# Altium footprint library footprints.PCBLIB: 194 footprints (part 7 of 13)
Each footprint in its own frame and in the unit in brackets; x right, y up, seen from the top. Pads: shape width x height; smd on the part's side, far side on the other; paste and mask are expansions set on the pad; w line width, h text height; cw(c..) or ccw(c..) is an arc to the next point about the centre after c.
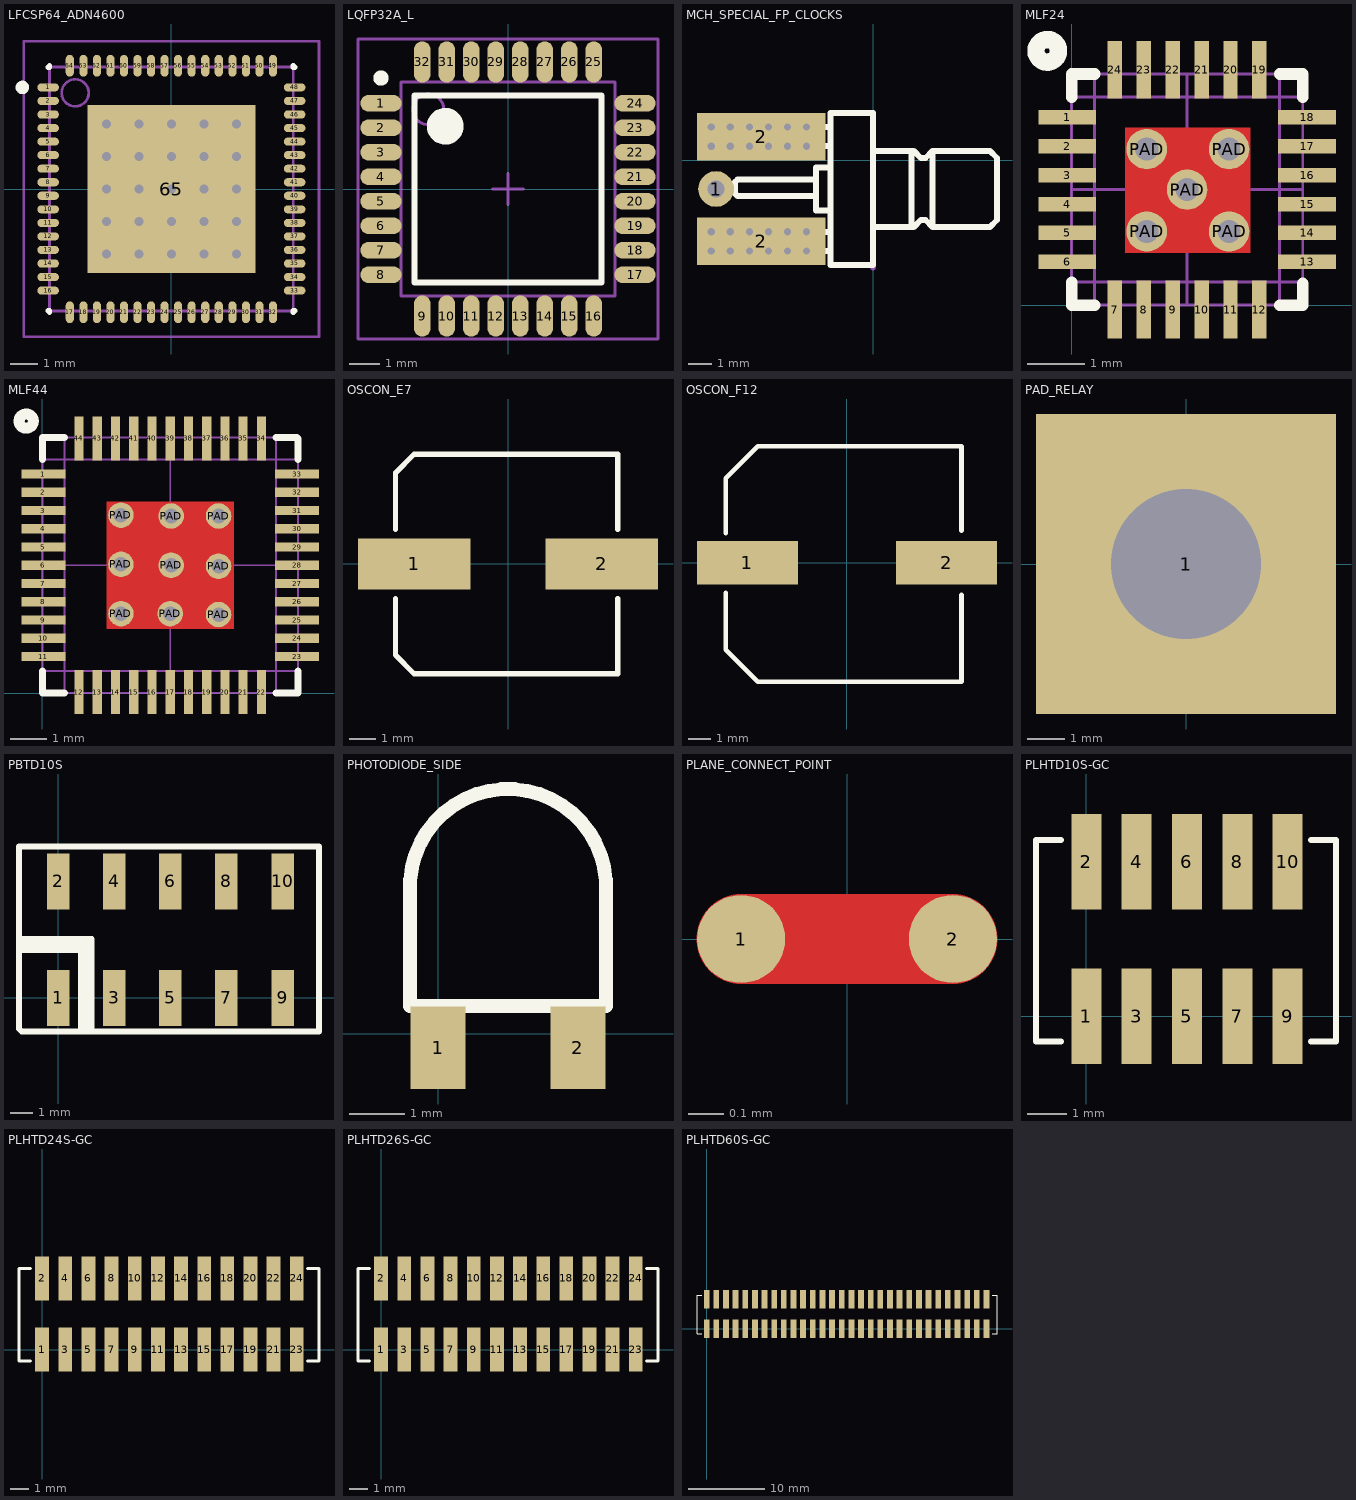
[diagram p6: the footprints below, top view; thin cyan lines are the x and y axes]

## LFCSP64_ADN4600 [mm] "LFCSP64_ADN4600"
height 0.8
pads (65):
  oval 0.8x0.3 smd: 1(-4.55,3.75) 2(-4.55,3.25) 3(-4.55,2.75) 4(-4.55,2.25) 5(-4.55,1.75) 6(-4.55,1.25) 7(-4.55,0.75) 8(-4.55,0.25) 9(-4.55,-0.25) 10(-4.55,-0.75) 11(-4.55,-1.25) 12(-4.55,-1.75) 13(-4.55,-2.25) 14(-4.55,-2.75) 15(-4.55,-3.25) 16(-4.55,-3.75) 33(4.55,-3.75) 34(4.55,-3.25) 35(4.55,-2.75) 36(4.55,-2.25) 37(4.55,-1.75) 38(4.55,-1.25) 39(4.55,-0.75) 40(4.55,-0.25) 41(4.55,0.25) 42(4.55,0.75) 43(4.55,1.25) 44(4.55,1.75) 45(4.55,2.25) 46(4.55,2.75) 47(4.55,3.25) 48(4.55,3.75)
  oval 0.3x0.8 smd: 17(-3.75,-4.55) 18(-3.25,-4.55) 19(-2.75,-4.55) 20(-2.25,-4.55) 21(-1.75,-4.55) 22(-1.25,-4.55) 23(-0.75,-4.55) 24(-0.25,-4.55) 25(0.25,-4.55) 26(0.75,-4.55) 27(1.25,-4.55) 28(1.75,-4.55) 29(2.25,-4.55) 30(2.75,-4.55) 31(3.25,-4.55) 32(3.75,-4.55) 49(3.75,4.55) 50(3.25,4.55) 51(2.75,4.55) 52(2.25,4.55) 53(1.75,4.55) 54(1.25,4.55) 55(0.75,4.55) 56(0.25,4.55) 57(-0.25,4.55) 58(-0.75,4.55) 59(-1.25,4.55) 60(-1.75,4.55) 61(-2.25,4.55) 62(-2.75,4.55) 63(-3.25,4.55) 64(-3.75,4.55)
  rect 6.2x6.2 smd paste-200: 65(0,0)
via -2.4,2.4 diameter 0.66 hole 0.33
via -1.2,2.4 diameter 0.66 hole 0.33
via 0,2.4 diameter 0.66 hole 0.33
via 1.2,2.4 diameter 0.66 hole 0.33
via 2.4,2.4 diameter 0.66 hole 0.33
via -2.4,1.2 diameter 0.66 hole 0.33
via -1.2,1.2 diameter 0.66 hole 0.33
via 0,1.2 diameter 0.66 hole 0.33
via 1.2,1.2 diameter 0.66 hole 0.33
via 2.4,1.2 diameter 0.66 hole 0.33
via -2.4,0 diameter 0.66 hole 0.33
via -1.2,0 diameter 0.66 hole 0.33
via 0,0 diameter 0.66 hole 0.33
via 1.2,0 diameter 0.66 hole 0.33
via 2.4,0 diameter 0.66 hole 0.33
via -2.4,-1.2 diameter 0.66 hole 0.33
via -1.2,-1.2 diameter 0.66 hole 0.33
via 0,-1.2 diameter 0.66 hole 0.33
via 1.2,-1.2 diameter 0.66 hole 0.33
via 2.4,-1.2 diameter 0.66 hole 0.33
via -2.4,-2.4 diameter 0.66 hole 0.33
via -1.2,-2.4 diameter 0.66 hole 0.33
via 0,-2.4 diameter 0.66 hole 0.33
via 1.2,-2.4 diameter 0.66 hole 0.33
via 2.4,-2.4 diameter 0.66 hole 0.33
Top Overlay:
  circle w0.25: c-5.5,3.75 r0.125
  lines w0.2: -4.55,-4.5 -4.5,-4.5 -4.5,-4.55 ; -4.55,4.5 -4.5,4.5 -4.5,4.55 ; 4.5,-4.55 4.5,-4.5 4.55,-4.5 ; 4.5,4.55 4.5,4.5 4.55,4.5
Top Paste:
  rectangle: -3.05,-3.05 -0.25,-0.25
  rectangle: 0.25,-3.05 3.05,-0.25
  rectangle: 0.25,0.25 3.05,3.05
  rectangle: -3.05,0.25 -0.25,3.05
Mechanical 13:
  circle w0.1: c-3.55,3.55 r0.5
  lines w0.1: -4.5,-4.5 -4.5,4.5 4.5,4.5 4.5,-4.5 -4.5,-4.5
Mechanical 15:
  lines w0.1: -0.5,0 0.5,0 ; 0,-0.5 0,0.5 ; -5.45,-5.45 -5.45,5.45 5.45,5.45 5.45,-5.45 -5.45,-5.45
3D body: height 0.8, standoff 0.01, extent -4.5,-4.5 4.5,4.5

## LQFP32A_L [mm] "Thin QFP, 32-Leads, Body 7x7mm, Pitch 0.8mm, IPC High Density"
height 1.2
pads (32):
  oval 1.35x0.55 smd: 1(-4.15,2.8) 2(-4.15,2) 3(-4.15,1.2) 4(-4.15,0.4) 5(-4.15,-0.4) 6(-4.15,-1.2) 7(-4.15,-2) 8(-4.15,-2.8) 17(4.15,-2.8) 18(4.15,-2) 19(4.15,-1.2) 20(4.15,-0.4) 21(4.15,0.4) 22(4.15,1.2) 23(4.15,2) 24(4.15,2.8)
  oval 0.55x1.35 smd: 9(-2.8,-4.15) 10(-2,-4.15) 11(-1.2,-4.15) 12(-0.4,-4.15) 13(0.4,-4.15) 14(1.2,-4.15) 15(2,-4.15) 16(2.8,-4.15) 25(2.8,4.15) 26(2,4.15) 27(1.2,4.15) 28(0.4,4.15) 29(-0.4,4.15) 30(-1.2,4.15) 31(-2,4.15) 32(-2.8,4.15)
Top Overlay:
  circle w0.6: c-2.05,2.05 r0.3
  circle w0.25: c-4.15,3.625 r0.125
  lines w0.2: -3.05,-3.05 3.05,-3.05 3.05,3.05 -3.05,3.05 -3.05,-3.05
Mechanical 13:
  circle w0.1: c-2.6,2.6 r0.5
  lines w0.1: -3.5,-3.5 3.5,-3.5 3.5,3.5 -3.5,3.5 -3.5,-3.5
Mechanical 15:
  lines w0.1: -0.5,0 0.5,0 ; 0,-0.5 0,0.5 ; -4.9,-4.9 4.9,-4.9 4.9,4.9 -4.9,4.9 -4.9,-4.9
3D body: height 1.2, standoff 0, extent -3.5,-3.5 3.5,3.5

## MCH_SPECIAL_FP_CLOCKS [mm]
pads (3):
  round 1.5 hole 0.7 paste-1000: 1(-6.6,-1.2)
  rect 5.4x2 smd paste-1000: 2(-4.7,-3.4) 2(-4.7,1)
via -6.8,-3 diameter 0.61 hole 0.305
via -6,-3 diameter 0.61 hole 0.305
via -5.2,-3 diameter 0.61 hole 0.305
via -4.4,-3 diameter 0.61 hole 0.305
via -3.6,-3 diameter 0.61 hole 0.305
via -2.8,-3 diameter 0.61 hole 0.305
via -2.8,-3.8 diameter 0.61 hole 0.305
via -3.6,-3.8 diameter 0.61 hole 0.305
via -4.4,-3.8 diameter 0.61 hole 0.305
via -5.2,-3.8 diameter 0.61 hole 0.305
via -6,-3.8 diameter 0.61 hole 0.305
via -6.8,-3.8 diameter 0.61 hole 0.305
via -6.8,0.6 diameter 0.61 hole 0.305
via -6,0.6 diameter 0.61 hole 0.305
via -5.2,0.6 diameter 0.61 hole 0.305
via -4.4,0.6 diameter 0.61 hole 0.305
via -3.6,0.6 diameter 0.61 hole 0.305
via -2.8,0.6 diameter 0.61 hole 0.305
via -2.8,1.4 diameter 0.61 hole 0.305
via -3.6,1.4 diameter 0.61 hole 0.305
via -4.4,1.4 diameter 0.61 hole 0.305
via -5.2,1.4 diameter 0.61 hole 0.305
via -6,1.4 diameter 0.61 hole 0.305
via -6.8,1.4 diameter 0.61 hole 0.305
Top Overlay:
  lines w0.25: -2.5,-1.5 -5.7,-1.5 -5.8,-1.4 -5.8,-0.9 ; -2.5,-0.8 -5.7,-0.8 -5.8,-0.9 ; -1.9,-3.8 -6.8,-3.8 -6.8,-3 -1.8,-3 ; -1.9,-2.1 -2.4,-2.1 -2.4,-0.3 -1.8,-0.3 ; -1.9,0.6 -6.7,0.6 -6.8,0.6 ; -1.8,1.4 -6.8,1.4 ; 0,-2.8 1.7,-2.8 2,-2.5 2.2,-2.5 2.5,-2.8 4.9,-2.8 5.2,-2.5 5.2,-1.1 ; 0,0.4 1.7,0.4 2,0.1 2.2,0.1 2.5,0.4 ; 1.6,-2.8 1.6,0.4 ; 2.5,-2.7 2.5,0.4 ; 5.2,-1.3 5.2,0.1 4.9,0.4 2.5,0.4 ; -6.8,0.6 -6.8,1.4 ; -6.8,0.6 -6.8,1.4 ; -6.8,0.6 -6.8,1.4 ; -5.8,-0.9 -5.8,-0.9 ; -1.8,-4.4 -1.8,2 0,2 0,-4.4 -1.8,-4.4
Mechanical 13:
  lines w0.25: 0,-4.5 0,2

## MLF24 [mm]
pads (29):
  rect 1x0.25 smd: 1(-0.075,3.25) 2(-0.075,2.75) 3(-0.075,2.25) 4(-0.075,1.75) 5(-0.075,1.25) 6(-0.075,0.75) 13(4.075,0.75) 14(4.075,1.25) 15(4.075,1.75) 16(4.075,2.25) 17(4.075,2.75) 18(4.075,3.25)
  rect 0.25x1 smd: 7(0.75,-0.075) 8(1.25,-0.075) 9(1.75,-0.075) 10(2.25,-0.075) 11(2.75,-0.075) 12(3.25,-0.075) 19(3.25,4.075) 20(2.75,4.075) 21(2.25,4.075) 22(1.75,4.075) 23(1.25,4.075) 24(0.75,4.075)
  round 0.7 hole 0.4: PAD(1.3,1.275) PAD(1.3,2.7) PAD(2,2) PAD(2.725,1.275) PAD(2.725,2.7)
Top Layer:
  rectangle: 0.925,0.9 3.1,3.075
Top Overlay:
  circle w0.3: c-0.42,4.4 r0.195
  lines w0.2: 0,0.4 0,0 0.4,0 ; 0,3.6 0,4 0.4,4 ; 3.6,0 4,0 4,0.375 ; 3.6,4 4,4 4,3.6
Top Solder:
  rectangle: 0.825,0.8 3.2,3.175
Mechanical 15:
  lines w0.05: 0,0.4 3.975,0.4 ; 0,2 4,2 ; 0,3.6 4,3.6 ; 0.4,0 0.4,4 ; 2,0 2,4 ; 3.6,0 3.6,4 ; 0,0 0,4 4,4 4,0 0,0

## MLF44 [mm]
pads (53):
  rect 1.2x0.25 smd: 1(0.025,6) 2(0.025,5.5) 3(0.025,5) 4(0.025,4.5) 5(0.025,4) 6(0.025,3.5) 7(0.025,3) 8(0.025,2.5) 9(0.025,2) 10(0.025,1.5) 11(0.025,1) 23(6.975,1) 24(6.975,1.5) 25(6.975,2) 26(6.975,2.5) 27(6.975,3) 28(6.975,3.5) 29(6.975,4) 30(6.975,4.5) 31(6.975,5) 32(6.975,5.5) 33(6.975,6)
  rect 0.25x1.2 smd: 12(1,0.025) 13(1.5,0.025) 14(2,0.025) 15(2.5,0.025) 16(3,0.025) 17(3.5,0.025) 18(4,0.025) 19(4.5,0.025) 20(5,0.025) 21(5.5,0.025) 22(6,0.025) 34(6,6.975) 35(5.5,6.975) 36(5,6.975) 37(4.5,6.975) 38(4,6.975) 39(3.5,6.975) 40(3,6.975) 41(2.5,6.975) 42(2,6.975) 43(1.5,6.975) 44(1,6.975)
  round 0.7 hole 0.4: PAD(2.15,2.175) PAD(2.15,3.525) PAD(2.15,4.875) PAD(3.5,2.175) PAD(3.525,3.5) PAD(3.525,4.85) PAD(4.825,2.15) PAD(4.825,3.475) PAD(4.825,4.85)
Top Layer:
  rectangle: 1.75,1.75 5.25,5.25
Top Overlay:
  circle w0.3: c-0.445,7.45 r0.195
  lines w0.2: 0,0 0,0.6 ; 0,6.4 0,7 0.6,7 ; 0.025,0 0.6,0 ; 6.4,0 7,0 7,0.6 ; 6.4,7 6.975,7 7,6.975 7,6.4
Top Solder:
  rectangle: 1.675,1.675 5.325,5.325
Mechanical 15:
  lines w0.05: 0,0.6 7,0.6 ; 0,3.5 7,3.5 ; 0,6.4 7,6.4 ; 0.6,0 0.6,7 ; 3.5,0 3.5,7 ; 6.4,0 6.4,7 ; 0,0 7,0 7,7 0,7 0,0

## MLF64 [mm]

## OSCON_E7 [mm]
pads (2):
  rect 4.2x1.9 smd: 1(-3.5,0) 2(3.5,0)
Top Overlay:
  lines w0.2: -4.2,-1.3 -4.2,-3.4 -3.5,-4.1 4.1,-4.1 4.1,-1.3 ; -4.2,1.3 -4.2,3.4 -3.5,4.1 4.1,4.1 4.1,1.3

## OSCON_F12 [mm]
pads (2):
  rect 4.4x1.9 smd: 1(-4.35,0) 2(4.35,0)
Top Overlay:
  lines w0.2: -5.3,-1.3 -5.3,-3.8 -3.9,-5.2 5,-5.2 5,-1.4 ; -5.3,1.3 -5.3,3.7 -3.9,5.1 5,5.1 5,1.4

## PAD_RELAY [mm]
pads (1):
  rect 8x8 hole 4: 1(0,0)

## PBTD10S [mm] "SMT 2.54 female header  (Maritex)"
height 7.1
pads (10):
  rect 1.02x2.54 smd: 1(0,0) 2(0,5.28) 3(2.54,0) 4(2.54,5.28) 5(5.08,0) 6(5.08,5.28) 7(7.62,0) 8(7.62,5.28) 9(10.16,0) 10(10.16,5.28)
Top Overlay:
  lines w0.254: -1.778,2.159 1.016,2.159 1.016,-1.524 ; -1.778,2.413 1.27,2.413 1.27,1.778 1.27,-1.524 ; -1.778,2.667 1.524,2.667 1.524,-1.524 ; -0.762,6.858 -0.127,6.858 ; 0.127,6.858 -1.778,6.858 ; 0.889,2.413 1.016,2.413 1.27,2.159 ; 1.016,2.667 1.27,2.667 1.524,2.413 ; -1.778,6.858 -1.778,-1.397 -1.651,-1.524 1.016,-1.524 ; -1.778,6.858 -0.508,6.858 11.811,6.858 11.811,-1.016 11.811,-1.524 1.016,-1.524

## PHOTODIODE_SIDE [mm]
pads (2):
  rect 1x1.5 smd: 1(0,-0.254) 2(2.54,-0.254)
Top Overlay:
  lines w0.254: -0.508,0.508 3.048,0.508 3.048,2.794 ccw(c1.27,2.667) -0.508,2.794 -0.508,0.508

## PLANE_CONNECT_POINT [mm]
pads (2):
  round 0.25 smd: 1(-0.3,0) 2(0.3,0)
Top Layer:
  lines w0.254: -0.3,0 0.3,0

## PLHTD10S-GC [mm] "SMT 1.27 mm dual goldpin"
height 4
pads (10):
  rect 0.76x2.4 smd: 1(0,0) 2(0,3.9) 3(1.27,0) 4(1.27,3.9) 5(2.54,0) 6(2.54,3.9) 7(3.81,0) 8(3.81,3.9) 9(5.08,0) 10(5.08,3.9)
Top Overlay:
  lines w0.15: -0.635,-0.635 -1.27,-0.635 -1.27,4.445 -0.635,4.445 ; 5.665,-0.635 6.3,-0.635 6.3,4.445 5.665,4.445

## PLHTD24S-GC [mm] "SMT 1.27 mm dual goldpin"
height 4
pads (24):
  rect 0.76x2.4 smd: 1(0,0) 2(0,3.9) 3(1.27,0) 4(1.27,3.9) 5(2.54,0) 6(2.54,3.9) 7(3.81,0) 8(3.81,3.9) 9(5.08,0) 10(5.08,3.9) 11(6.35,0) 12(6.35,3.9) 13(7.62,0) 14(7.62,3.9) 15(8.89,0) 16(8.89,3.9) 17(10.16,0) 18(10.16,3.9) 19(11.43,0) 20(11.43,3.9) 21(12.7,0) 22(12.7,3.9) 23(13.97,0) 24(13.97,3.9)
Top Overlay:
  lines w0.15: -0.635,-0.635 -1.27,-0.635 -1.27,4.445 -0.635,4.445 ; 14.555,-0.635 15.19,-0.635 15.19,4.445 14.555,4.445

## PLHTD26S-GC [mm] "SMT 1.27 mm dual goldpin"
height 4
pads (24):
  rect 0.76x2.4 smd: 1(0,0) 2(0,3.9) 3(1.27,0) 4(1.27,3.9) 5(2.54,0) 6(2.54,3.9) 7(3.81,0) 8(3.81,3.9) 9(5.08,0) 10(5.08,3.9) 11(6.35,0) 12(6.35,3.9) 13(7.62,0) 14(7.62,3.9) 15(8.89,0) 16(8.89,3.9) 17(10.16,0) 18(10.16,3.9) 19(11.43,0) 20(11.43,3.9) 21(12.7,0) 22(12.7,3.9) 23(13.97,0) 24(13.97,3.9)
Top Overlay:
  lines w0.15: -0.635,-0.635 -1.27,-0.635 -1.27,4.445 -0.635,4.445 ; 14.555,-0.635 15.19,-0.635 15.19,4.445 14.555,4.445

## PLHTD60S-GC [mm] "SMT 1.27 mm dual goldpin"
height 4
pads (60):
  rect 0.76x2.4 smd: 1(0,0) 2(0,3.9) 3(1.27,0) 4(1.27,3.9) 5(2.54,0) 6(2.54,3.9) 7(3.81,0) 8(3.81,3.9) 9(5.08,0) 10(5.08,3.9) 11(6.35,0) 12(6.35,3.9) 13(7.62,0) 14(7.62,3.9) 15(8.89,0) 16(8.89,3.9) 17(10.16,0) 18(10.16,3.9) 19(11.43,0) 20(11.43,3.9) 21(12.7,0) 22(12.7,3.9) 23(13.97,0) 24(13.97,3.9) 25(15.24,0) 26(15.24,3.9) 27(16.51,0) 28(16.51,3.9) 29(17.78,0) 30(17.78,3.9) 31(19.05,0) 32(19.05,3.9) 33(20.32,0) 34(20.32,3.9) 35(21.59,0) 36(21.59,3.9) 37(22.86,0) 38(22.86,3.9) 39(24.13,0) 40(24.13,3.9) 41(25.4,0) 42(25.4,3.9) 43(26.67,0) 44(26.67,3.9) 45(27.94,0) 46(27.94,3.9) 47(29.21,0) 48(29.21,3.9) 49(30.48,0) 50(30.48,3.9) 51(31.75,0) 52(31.75,3.9) 53(33.02,0) 54(33.02,3.9) 55(34.29,0) 56(34.29,3.9) 57(35.56,0) 58(35.56,3.9) 59(36.83,0) 60(36.83,3.9)
Top Overlay:
  lines w0.15: -0.635,-0.635 -1.27,-0.635 -1.27,4.445 -0.635,4.445 ; 37.585,-0.645 38.22,-0.645 38.22,4.435 37.585,4.435